# Altium footprint library JST B4B-PH-K-S.PcbLib: 1 footprints
Each footprint in its own frame and in the unit in brackets; x right, y up, seen from the top. Pads: shape width x height; smd on the part's side, far side on the other; paste and mask are expansions set on the pad; w line width, h text height; cw(c..) or ccw(c..) is an arc to the next point about the centre after c.
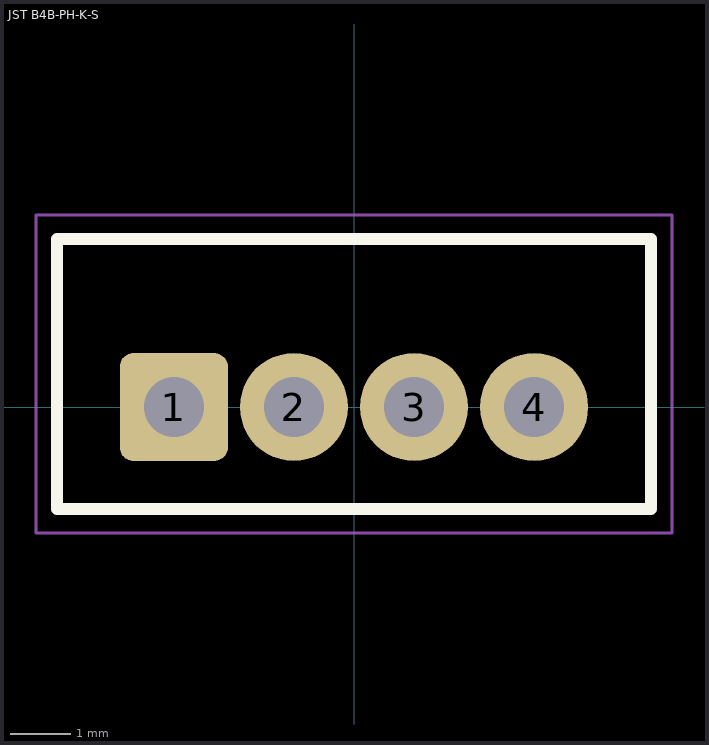
[diagram p0: the footprint, top view; thin cyan lines are the x and y axes]

## JST B4B-PH-K-S [mm]
height 8
pads (4):
  rrect25% 1.8x1.8 hole 1: 1(-3,0)
  round 1.8 hole 1: 2(-1,0) 3(1,0) 4(3,0)
Top Overlay:
  lines w0.2: -4.95,-1.7 4.95,-1.7 4.95,2.8 -4.95,2.8 -4.95,-1.7
Top Assembly:
  lines w0.1: -4.95,-1.7 4.95,-1.7 4.95,2.8 -4.95,2.8 -4.95,-1.7
Top Courtyard:
  lines w0.05: -5.3,-2.1 -5.3,3.2 5.3,3.2 5.3,-2.1 -5.3,-2.1
Top Designator:
  text ".Designator" at -7.498,-0.5 h1.5
3D body "B4B-PH-K-S(LF)(SN)--3DModel-STEP-56544.STEP": height 6, standoff -3.4, extent -4.95,-1.7 4.95,2.8